# Altium footprint library QFP_Thin_Sq_40P_Side_N.PcbLib: 9 footprints
Each footprint in its own frame and in the unit in brackets; x right, y up, seen from the top. Pads: shape width x height; smd on the part's side, far side on the other; paste and mask are expansions set on the pad; w line width, h text height; cw(c..) or ccw(c..) is an arc to the next point about the centre after c.
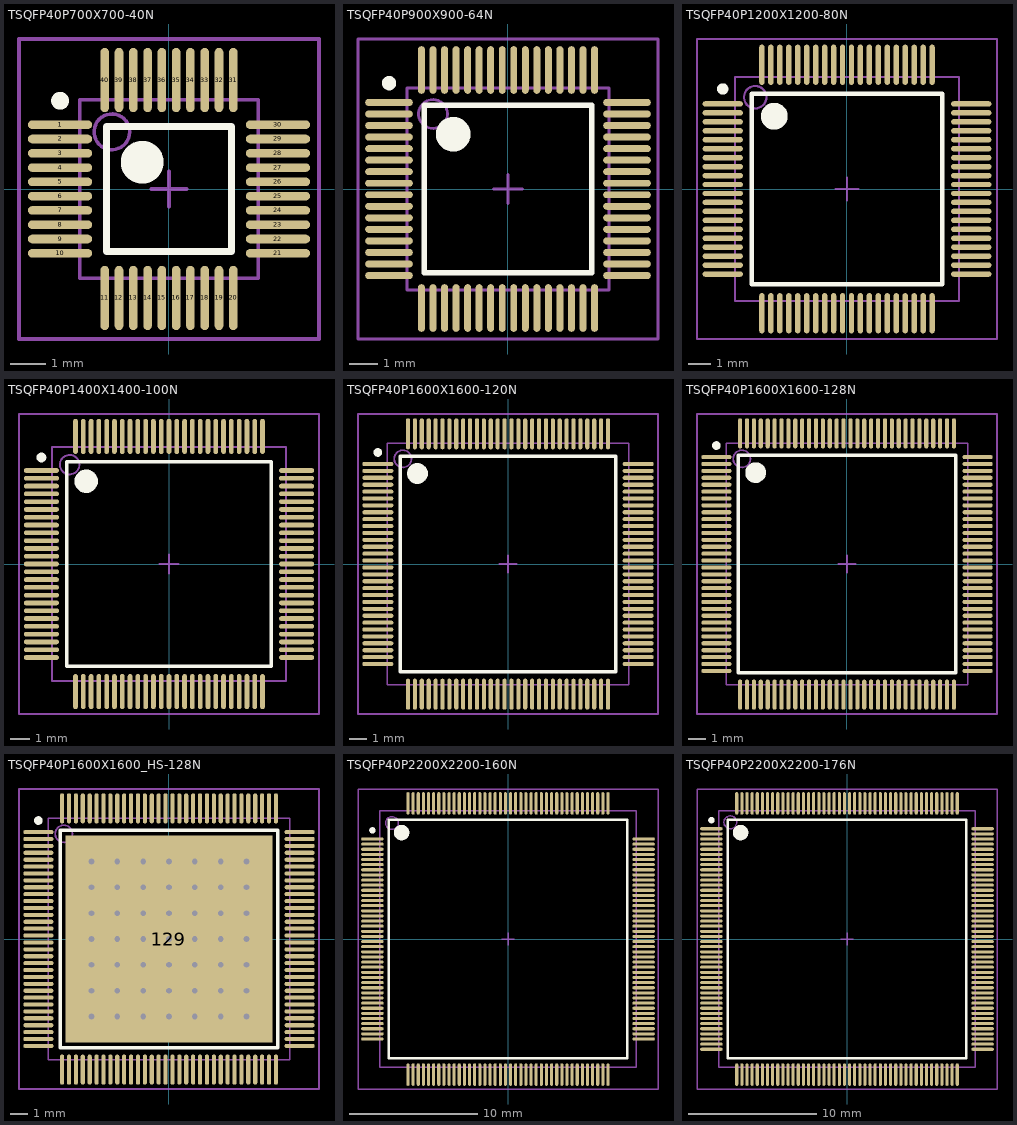
[diagram p0: the footprints below, top view; thin cyan lines are the x and y axes]

## TSQFP40P700X700-40N [mm] "Thin QFP, 40-Leads, Body 5x5mm, Pitch 0.4mm, IPC Medium Density"
height 1.2
pads (40):
  oval 1.8x0.24 smd: 1(-3.05,1.8) 2(-3.05,1.4) 3(-3.05,1) 4(-3.05,0.6) 5(-3.05,0.2) 6(-3.05,-0.2) 7(-3.05,-0.6) 8(-3.05,-1) 9(-3.05,-1.4) 10(-3.05,-1.8) 21(3.05,-1.8) 22(3.05,-1.4) 23(3.05,-1) 24(3.05,-0.6) 25(3.05,-0.2) 26(3.05,0.2) 27(3.05,0.6) 28(3.05,1) 29(3.05,1.4) 30(3.05,1.8)
  oval 0.24x1.8 smd: 11(-1.8,-3.05) 12(-1.4,-3.05) 13(-1,-3.05) 14(-0.6,-3.05) 15(-0.2,-3.05) 16(0.2,-3.05) 17(0.6,-3.05) 18(1,-3.05) 19(1.4,-3.05) 20(1.8,-3.05) 31(1.8,3.05) 32(1.4,3.05) 33(1,3.05) 34(0.6,3.05) 35(0.2,3.05) 36(-0.2,3.05) 37(-0.6,3.05) 38(-1,3.05) 39(-1.4,3.05) 40(-1.8,3.05)
Top Overlay:
  circle w0.25: c-3.05,2.47 r0.125
  circle w0.6: c-0.75,0.75 r0.3
  lines w0.2: -1.75,-1.75 -1.75,1.75 1.75,1.75 1.75,-1.75 -1.75,-1.75
Mechanical 13:
  circle w0.1: c-1.6,1.6 r0.5
  lines w0.1: -2.5,-2.5 -2.5,2.5 2.5,2.5 2.5,-2.5 -2.5,-2.5
Mechanical 15:
  lines w0.1: -0.5,0 0.5,0 ; 0,-0.5 0,0.5 ; -4.2,-4.2 -4.2,4.2 4.2,4.2 4.2,-4.2 -4.2,-4.2
3D body: height 1.2, standoff 0, extent -2.5,-2.5 2.5,2.5

## TSQFP40P900X900-64N [mm] "Thin QFP, 64-Leads, Body 7x7mm, Pitch 0.4mm, IPC Medium Density"
height 1.2
pads (64):
  oval 1.65x0.24 smd: 1(-4.125,3) 2(-4.125,2.6) 3(-4.125,2.2) 4(-4.125,1.8) 5(-4.125,1.4) 6(-4.125,1) 7(-4.125,0.6) 8(-4.125,0.2) 9(-4.125,-0.2) 10(-4.125,-0.6) 11(-4.125,-1) 12(-4.125,-1.4) 13(-4.125,-1.8) 14(-4.125,-2.2) 15(-4.125,-2.6) 16(-4.125,-3) 33(4.125,-3) 34(4.125,-2.6) 35(4.125,-2.2) 36(4.125,-1.8) 37(4.125,-1.4) 38(4.125,-1) 39(4.125,-0.6) 40(4.125,-0.2) 41(4.125,0.2) 42(4.125,0.6) 43(4.125,1) 44(4.125,1.4) 45(4.125,1.8) 46(4.125,2.2) 47(4.125,2.6) 48(4.125,3)
  oval 0.24x1.65 smd: 17(-3,-4.125) 18(-2.6,-4.125) 19(-2.2,-4.125) 20(-1.8,-4.125) 21(-1.4,-4.125) 22(-1,-4.125) 23(-0.6,-4.125) 24(-0.2,-4.125) 25(0.2,-4.125) 26(0.6,-4.125) 27(1,-4.125) 28(1.4,-4.125) 29(1.8,-4.125) 30(2.2,-4.125) 31(2.6,-4.125) 32(3,-4.125) 49(3,4.125) 50(2.6,4.125) 51(2.2,4.125) 52(1.8,4.125) 53(1.4,4.125) 54(1,4.125) 55(0.6,4.125) 56(0.2,4.125) 57(-0.2,4.125) 58(-0.6,4.125) 59(-1,4.125) 60(-1.4,4.125) 61(-1.8,4.125) 62(-2.2,4.125) 63(-2.6,4.125) 64(-3,4.125)
Top Overlay:
  circle w0.25: c-4.125,3.67 r0.125
  circle w0.6: c-1.9,1.9 r0.3
  lines w0.2: -2.9,-2.9 -2.9,2.9 2.9,2.9 2.9,-2.9 -2.9,-2.9
Mechanical 13:
  circle w0.1: c-2.6,2.6 r0.5
  lines w0.1: -3.5,-3.5 -3.5,3.5 3.5,3.5 3.5,-3.5 -3.5,-3.5
Mechanical 15:
  lines w0.1: -0.5,0 0.5,0 ; 0,-0.5 0,0.5 ; -5.2,-5.2 -5.2,5.2 5.2,5.2 5.2,-5.2 -5.2,-5.2
3D body: height 1.2, standoff 0, extent -3.5,-3.5 3.5,3.5

## TSQFP40P1200X1200-80N [mm] "Thin QFP, 80-Leads, Body 10x10mm, Pitch 0.4mm, IPC Medium Density"
height 1.2
pads (80):
  oval 1.8x0.24 smd: 1(-5.55,3.8) 2(-5.55,3.4) 3(-5.55,3) 4(-5.55,2.6) 5(-5.55,2.2) 6(-5.55,1.8) 7(-5.55,1.4) 8(-5.55,1) 9(-5.55,0.6) 10(-5.55,0.2) 11(-5.55,-0.2) 12(-5.55,-0.6) 13(-5.55,-1) 14(-5.55,-1.4) 15(-5.55,-1.8) 16(-5.55,-2.2) 17(-5.55,-2.6) 18(-5.55,-3) 19(-5.55,-3.4) 20(-5.55,-3.8) 41(5.55,-3.8) 42(5.55,-3.4) 43(5.55,-3) 44(5.55,-2.6) 45(5.55,-2.2) 46(5.55,-1.8) 47(5.55,-1.4) 48(5.55,-1) 49(5.55,-0.6) 50(5.55,-0.2) 51(5.55,0.2) 52(5.55,0.6) 53(5.55,1) 54(5.55,1.4) 55(5.55,1.8) 56(5.55,2.2) 57(5.55,2.6) 58(5.55,3) 59(5.55,3.4) 60(5.55,3.8)
  oval 0.24x1.8 smd: 21(-3.8,-5.55) 22(-3.4,-5.55) 23(-3,-5.55) 24(-2.6,-5.55) 25(-2.2,-5.55) 26(-1.8,-5.55) 27(-1.4,-5.55) 28(-1,-5.55) 29(-0.6,-5.55) 30(-0.2,-5.55) 31(0.2,-5.55) 32(0.6,-5.55) 33(1,-5.55) 34(1.4,-5.55) 35(1.8,-5.55) 36(2.2,-5.55) 37(2.6,-5.55) 38(3,-5.55) 39(3.4,-5.55) 40(3.8,-5.55) 61(3.8,5.55) 62(3.4,5.55) 63(3,5.55) 64(2.6,5.55) 65(2.2,5.55) 66(1.8,5.55) 67(1.4,5.55) 68(1,5.55) 69(0.6,5.55) 70(0.2,5.55) 71(-0.2,5.55) 72(-0.6,5.55) 73(-1,5.55) 74(-1.4,5.55) 75(-1.8,5.55) 76(-2.2,5.55) 77(-2.6,5.55) 78(-3,5.55) 79(-3.4,5.55) 80(-3.8,5.55)
Top Overlay:
  circle w0.25: c-5.55,4.47 r0.125
  circle w0.6: c-3.25,3.25 r0.3
  lines w0.2: -4.25,-4.25 -4.25,4.25 4.25,4.25 4.25,-4.25 -4.25,-4.25
Mechanical 13:
  circle w0.1: c-4.1,4.1 r0.5
  lines w0.1: -5,-5 -5,5 5,5 5,-5 -5,-5
Mechanical 15:
  lines w0.1: -0.5,0 0.5,0 ; 0,-0.5 0,0.5 ; -6.7,-6.7 -6.7,6.7 6.7,6.7 6.7,-6.7 -6.7,-6.7
3D body: height 1.2, standoff 0, extent -5,-5 5,5

## TSQFP40P1400X1400-100N [mm] "Thin QFP, 100-Leads, Body 12x12mm, Pitch 0.4mm, IPC Medium Density"
height 1.2
pads (100):
  oval 1.8x0.24 smd: 1(-6.55,4.8) 2(-6.55,4.4) 3(-6.55,4) 4(-6.55,3.6) 5(-6.55,3.2) 6(-6.55,2.8) 7(-6.55,2.4) 8(-6.55,2) 9(-6.55,1.6) 10(-6.55,1.2) 11(-6.55,0.8) 12(-6.55,0.4) 13(-6.55,0) 14(-6.55,-0.4) 15(-6.55,-0.8) 16(-6.55,-1.2) 17(-6.55,-1.6) 18(-6.55,-2) 19(-6.55,-2.4) 20(-6.55,-2.8) 21(-6.55,-3.2) 22(-6.55,-3.6) 23(-6.55,-4) 24(-6.55,-4.4) 25(-6.55,-4.8) 51(6.55,-4.8) 52(6.55,-4.4) 53(6.55,-4) 54(6.55,-3.6) 55(6.55,-3.2) 56(6.55,-2.8) 57(6.55,-2.4) 58(6.55,-2) 59(6.55,-1.6) 60(6.55,-1.2) 61(6.55,-0.8) 62(6.55,-0.4) 63(6.55,0) 64(6.55,0.4) 65(6.55,0.8) 66(6.55,1.2) 67(6.55,1.6) 68(6.55,2) 69(6.55,2.4) 70(6.55,2.8) 71(6.55,3.2) 72(6.55,3.6) 73(6.55,4) 74(6.55,4.4) 75(6.55,4.8)
  oval 0.24x1.8 smd: 26(-4.8,-6.55) 27(-4.4,-6.55) 28(-4,-6.55) 29(-3.6,-6.55) 30(-3.2,-6.55) 31(-2.8,-6.55) 32(-2.4,-6.55) 33(-2,-6.55) 34(-1.6,-6.55) 35(-1.2,-6.55) 36(-0.8,-6.55) 37(-0.4,-6.55) 38(0,-6.55) 39(0.4,-6.55) 40(0.8,-6.55) 41(1.2,-6.55) 42(1.6,-6.55) 43(2,-6.55) 44(2.4,-6.55) 45(2.8,-6.55) 46(3.2,-6.55) 47(3.6,-6.55) 48(4,-6.55) 49(4.4,-6.55) 50(4.8,-6.55) 76(4.8,6.55) 77(4.4,6.55) 78(4,6.55) 79(3.6,6.55) 80(3.2,6.55) 81(2.8,6.55) 82(2.4,6.55) 83(2,6.55) 84(1.6,6.55) 85(1.2,6.55) 86(0.8,6.55) 87(0.4,6.55) 88(0,6.55) 89(-0.4,6.55) 90(-0.8,6.55) 91(-1.2,6.55) 92(-1.6,6.55) 93(-2,6.55) 94(-2.4,6.55) 95(-2.8,6.55) 96(-3.2,6.55) 97(-3.6,6.55) 98(-4,6.55) 99(-4.4,6.55) 100(-4.8,6.55)
Top Overlay:
  circle w0.6: c-4.25,4.25 r0.3
  circle w0.25: c-6.55,5.47 r0.125
  lines w0.2: -5.25,-5.25 5.25,-5.25 5.25,5.25 -5.25,5.25 -5.25,-5.25
Mechanical 13:
  circle w0.1: c-5.1,5.1 r0.5
  lines w0.1: -6,-6 6,-6 6,6 -6,6 -6,-6
Mechanical 15:
  lines w0.1: -0.5,0 0.5,0 ; 0,-0.5 0,0.5 ; -7.7,-7.7 7.7,-7.7 7.7,7.7 -7.7,7.7 -7.7,-7.7
3D body: height 1.2, standoff 0, extent -6,-6 6,6

## TSQFP40P1600X1600-120N [mm] "Thin QFP, 120-Leads, Body 14x14mm, Pitch 0.4mm, IPC Medium Density"
height 1.2
pads (120):
  oval 1.8x0.24 smd: 1(-7.55,5.8) 2(-7.55,5.4) 3(-7.55,5) 4(-7.55,4.6) 5(-7.55,4.2) 6(-7.55,3.8) 7(-7.55,3.4) 8(-7.55,3) 9(-7.55,2.6) 10(-7.55,2.2) 11(-7.55,1.8) 12(-7.55,1.4) 13(-7.55,1) 14(-7.55,0.6) 15(-7.55,0.2) 16(-7.55,-0.2) 17(-7.55,-0.6) 18(-7.55,-1) 19(-7.55,-1.4) 20(-7.55,-1.8) 21(-7.55,-2.2) 22(-7.55,-2.6) 23(-7.55,-3) 24(-7.55,-3.4) 25(-7.55,-3.8) 26(-7.55,-4.2) 27(-7.55,-4.6) 28(-7.55,-5) 29(-7.55,-5.4) 30(-7.55,-5.8) 61(7.55,-5.8) 62(7.55,-5.4) 63(7.55,-5) 64(7.55,-4.6) 65(7.55,-4.2) 66(7.55,-3.8) 67(7.55,-3.4) 68(7.55,-3) 69(7.55,-2.6) 70(7.55,-2.2) 71(7.55,-1.8) 72(7.55,-1.4) 73(7.55,-1) 74(7.55,-0.6) 75(7.55,-0.2) 76(7.55,0.2) 77(7.55,0.6) 78(7.55,1) 79(7.55,1.4) 80(7.55,1.8) 81(7.55,2.2) 82(7.55,2.6) 83(7.55,3) 84(7.55,3.4) 85(7.55,3.8) 86(7.55,4.2) 87(7.55,4.6) 88(7.55,5) 89(7.55,5.4) 90(7.55,5.8)
  oval 0.24x1.8 smd: 31(-5.8,-7.55) 32(-5.4,-7.55) 33(-5,-7.55) 34(-4.6,-7.55) 35(-4.2,-7.55) 36(-3.8,-7.55) 37(-3.4,-7.55) 38(-3,-7.55) 39(-2.6,-7.55) 40(-2.2,-7.55) 41(-1.8,-7.55) 42(-1.4,-7.55) 43(-1,-7.55) 44(-0.6,-7.55) 45(-0.2,-7.55) 46(0.2,-7.55) 47(0.6,-7.55) 48(1,-7.55) 49(1.4,-7.55) 50(1.8,-7.55) 51(2.2,-7.55) 52(2.6,-7.55) 53(3,-7.55) 54(3.4,-7.55) 55(3.8,-7.55) 56(4.2,-7.55) 57(4.6,-7.55) 58(5,-7.55) 59(5.4,-7.55) 60(5.8,-7.55) 91(5.8,7.55) 92(5.4,7.55) 93(5,7.55) 94(4.6,7.55) 95(4.2,7.55) 96(3.8,7.55) 97(3.4,7.55) 98(3,7.55) 99(2.6,7.55) 100(2.2,7.55) 101(1.8,7.55) 102(1.4,7.55) 103(1,7.55) 104(0.6,7.55) 105(0.2,7.55) 106(-0.2,7.55) 107(-0.6,7.55) 108(-1,7.55) 109(-1.4,7.55) 110(-1.8,7.55) 111(-2.2,7.55) 112(-2.6,7.55) 113(-3,7.55) 114(-3.4,7.55) 115(-3.8,7.55) 116(-4.2,7.55) 117(-4.6,7.55) 118(-5,7.55) 119(-5.4,7.55) 120(-5.8,7.55)
Top Overlay:
  circle w0.25: c-7.55,6.47 r0.125
  circle w0.6: c-5.25,5.25 r0.3
  lines w0.2: -6.25,-6.25 -6.25,6.25 6.25,6.25 6.25,-6.25 -6.25,-6.25
Mechanical 13:
  circle w0.1: c-6.1,6.1 r0.5
  lines w0.1: -7,-7 -7,7 7,7 7,-7 -7,-7
Mechanical 15:
  lines w0.1: -0.5,0 0.5,0 ; 0,-0.5 0,0.5 ; -8.7,-8.7 -8.7,8.7 8.7,8.7 8.7,-8.7 -8.7,-8.7
3D body: height 1.2, standoff 0, extent -7,-7 7,7

## TSQFP40P1600X1600-128N [mm] "Thin QFP, 128-Leads, Body 14x14mm, Pitch 0.4mm, IPC Medium Density"
height 1.6
pads (128):
  oval 1.75x0.24 smd: 1(-7.575,6.2) 2(-7.575,5.8) 3(-7.575,5.4) 4(-7.575,5) 5(-7.575,4.6) 6(-7.575,4.2) 7(-7.575,3.8) 8(-7.575,3.4) 9(-7.575,3) 10(-7.575,2.6) 11(-7.575,2.2) 12(-7.575,1.8) 13(-7.575,1.4) 14(-7.575,1) 15(-7.575,0.6) 16(-7.575,0.2) 17(-7.575,-0.2) 18(-7.575,-0.6) 19(-7.575,-1) 20(-7.575,-1.4) 21(-7.575,-1.8) 22(-7.575,-2.2) 23(-7.575,-2.6) 24(-7.575,-3) 25(-7.575,-3.4) 26(-7.575,-3.8) 27(-7.575,-4.2) 28(-7.575,-4.6) 29(-7.575,-5) 30(-7.575,-5.4) 31(-7.575,-5.8) 32(-7.575,-6.2) 65(7.575,-6.2) 66(7.575,-5.8) 67(7.575,-5.4) 68(7.575,-5) 69(7.575,-4.6) 70(7.575,-4.2) 71(7.575,-3.8) 72(7.575,-3.4) 73(7.575,-3) 74(7.575,-2.6) 75(7.575,-2.2) 76(7.575,-1.8) 77(7.575,-1.4) 78(7.575,-1) 79(7.575,-0.6) 80(7.575,-0.2) 81(7.575,0.2) 82(7.575,0.6) 83(7.575,1) 84(7.575,1.4) 85(7.575,1.8) 86(7.575,2.2) 87(7.575,2.6) 88(7.575,3) 89(7.575,3.4) 90(7.575,3.8) 91(7.575,4.2) 92(7.575,4.6) 93(7.575,5) 94(7.575,5.4) 95(7.575,5.8) 96(7.575,6.2)
  oval 0.24x1.75 smd: 33(-6.2,-7.575) 34(-5.8,-7.575) 35(-5.4,-7.575) 36(-5,-7.575) 37(-4.6,-7.575) 38(-4.2,-7.575) 39(-3.8,-7.575) 40(-3.4,-7.575) 41(-3,-7.575) 42(-2.6,-7.575) 43(-2.2,-7.575) 44(-1.8,-7.575) 45(-1.4,-7.575) 46(-1,-7.575) 47(-0.6,-7.575) 48(-0.2,-7.575) 49(0.2,-7.575) 50(0.6,-7.575) 51(1,-7.575) 52(1.4,-7.575) 53(1.8,-7.575) 54(2.2,-7.575) 55(2.6,-7.575) 56(3,-7.575) 57(3.4,-7.575) 58(3.8,-7.575) 59(4.2,-7.575) 60(4.6,-7.575) 61(5,-7.575) 62(5.4,-7.575) 63(5.8,-7.575) 64(6.2,-7.575) 97(6.2,7.575) 98(5.8,7.575) 99(5.4,7.575) 100(5,7.575) 101(4.6,7.575) 102(4.2,7.575) 103(3.8,7.575) 104(3.4,7.575) 105(3,7.575) 106(2.6,7.575) 107(2.2,7.575) 108(1.8,7.575) 109(1.4,7.575) 110(1,7.575) 111(0.6,7.575) 112(0.2,7.575) 113(-0.2,7.575) 114(-0.6,7.575) 115(-1,7.575) 116(-1.4,7.575) 117(-1.8,7.575) 118(-2.2,7.575) 119(-2.6,7.575) 120(-3,7.575) 121(-3.4,7.575) 122(-3.8,7.575) 123(-4.2,7.575) 124(-4.6,7.575) 125(-5,7.575) 126(-5.4,7.575) 127(-5.8,7.575) 128(-6.2,7.575)
Top Overlay:
  circle w0.6: c-5.3,5.3 r0.3
  circle w0.25: c-7.575,6.87 r0.125
  lines w0.2: -6.3,-6.3 6.3,-6.3 6.3,6.3 -6.3,6.3 -6.3,-6.3
Mechanical 13:
  circle w0.1: c-6.1,6.1 r0.5
  lines w0.1: -7,-7 7,-7 7,7 -7,7 -7,-7
Mechanical 15:
  lines w0.1: -0.5,0 0.5,0 ; 0,-0.5 0,0.5 ; -8.7,-8.7 8.7,-8.7 8.7,8.7 -8.7,8.7 -8.7,-8.7
3D body: height 1.6, standoff 0, extent -7,-7 7,7

## TSQFP40P1600X1600_HS-128N [mm] "128-Pin Plastic Quad Flat Pack PowerPAD 0.4mm Pitch"
height 1.2
pads (129):
  oval 1.75x0.24 smd: 1(-7.575,6.2) 2(-7.575,5.8) 3(-7.575,5.4) 4(-7.575,5) 5(-7.575,4.6) 6(-7.575,4.2) 7(-7.575,3.8) 8(-7.575,3.4) 9(-7.575,3) 10(-7.575,2.6) 11(-7.575,2.2) 12(-7.575,1.8) 13(-7.575,1.4) 14(-7.575,1) 15(-7.575,0.6) 16(-7.575,0.2) 17(-7.575,-0.2) 18(-7.575,-0.6) 19(-7.575,-1) 20(-7.575,-1.4) 21(-7.575,-1.8) 22(-7.575,-2.2) 23(-7.575,-2.6) 24(-7.575,-3) 25(-7.575,-3.4) 26(-7.575,-3.8) 27(-7.575,-4.2) 28(-7.575,-4.6) 29(-7.575,-5) 30(-7.575,-5.4) 31(-7.575,-5.8) 32(-7.575,-6.2) 65(7.575,-6.2) 66(7.575,-5.8) 67(7.575,-5.4) 68(7.575,-5) 69(7.575,-4.6) 70(7.575,-4.2) 71(7.575,-3.8) 72(7.575,-3.4) 73(7.575,-3) 74(7.575,-2.6) 75(7.575,-2.2) 76(7.575,-1.8) 77(7.575,-1.4) 78(7.575,-1) 79(7.575,-0.6) 80(7.575,-0.2) 81(7.575,0.2) 82(7.575,0.6) 83(7.575,1) 84(7.575,1.4) 85(7.575,1.8) 86(7.575,2.2) 87(7.575,2.6) 88(7.575,3) 89(7.575,3.4) 90(7.575,3.8) 91(7.575,4.2) 92(7.575,4.6) 93(7.575,5) 94(7.575,5.4) 95(7.575,5.8) 96(7.575,6.2)
  oval 0.24x1.75 smd: 33(-6.2,-7.575) 34(-5.8,-7.575) 35(-5.4,-7.575) 36(-5,-7.575) 37(-4.6,-7.575) 38(-4.2,-7.575) 39(-3.8,-7.575) 40(-3.4,-7.575) 41(-3,-7.575) 42(-2.6,-7.575) 43(-2.2,-7.575) 44(-1.8,-7.575) 45(-1.4,-7.575) 46(-1,-7.575) 47(-0.6,-7.575) 48(-0.2,-7.575) 49(0.2,-7.575) 50(0.6,-7.575) 51(1,-7.575) 52(1.4,-7.575) 53(1.8,-7.575) 54(2.2,-7.575) 55(2.6,-7.575) 56(3,-7.575) 57(3.4,-7.575) 58(3.8,-7.575) 59(4.2,-7.575) 60(4.6,-7.575) 61(5,-7.575) 62(5.4,-7.575) 63(5.8,-7.575) 64(6.2,-7.575) 97(6.2,7.575) 98(5.8,7.575) 99(5.4,7.575) 100(5,7.575) 101(4.6,7.575) 102(4.2,7.575) 103(3.8,7.575) 104(3.4,7.575) 105(3,7.575) 106(2.6,7.575) 107(2.2,7.575) 108(1.8,7.575) 109(1.4,7.575) 110(1,7.575) 111(0.6,7.575) 112(0.2,7.575) 113(-0.2,7.575) 114(-0.6,7.575) 115(-1,7.575) 116(-1.4,7.575) 117(-1.8,7.575) 118(-2.2,7.575) 119(-2.6,7.575) 120(-3,7.575) 121(-3.4,7.575) 122(-3.8,7.575) 123(-4.2,7.575) 124(-4.6,7.575) 125(-5,7.575) 126(-5.4,7.575) 127(-5.8,7.575) 128(-6.2,7.575)
  rect 12x12 smd: 129(0,0)
via -4.5,-4.5 diameter 0.43 hole 0.33
via -3,-4.5 diameter 0.43 hole 0.33
via -1.5,-4.5 diameter 0.43 hole 0.33
via 0,-4.5 diameter 0.43 hole 0.33
via 1.5,-4.5 diameter 0.43 hole 0.33
via 3,-4.5 diameter 0.43 hole 0.33
via 4.5,-4.5 diameter 0.43 hole 0.33
via -4.5,4.5 diameter 0.43 hole 0.33
via -3,4.5 diameter 0.43 hole 0.33
via -1.5,4.5 diameter 0.43 hole 0.33
via 0,4.5 diameter 0.43 hole 0.33
via 1.5,4.5 diameter 0.43 hole 0.33
via 3,4.5 diameter 0.43 hole 0.33
via 4.5,4.5 diameter 0.43 hole 0.33
via -4.5,3 diameter 0.43 hole 0.33
via -3,3 diameter 0.43 hole 0.33
via -1.5,3 diameter 0.43 hole 0.33
via 0,3 diameter 0.43 hole 0.33
via 1.5,3 diameter 0.43 hole 0.33
via 3,3 diameter 0.43 hole 0.33
via 4.5,3 diameter 0.43 hole 0.33
via -4.5,1.5 diameter 0.43 hole 0.33
via -3,1.5 diameter 0.43 hole 0.33
via -1.5,1.5 diameter 0.43 hole 0.33
via 0,1.5 diameter 0.43 hole 0.33
via 1.5,1.5 diameter 0.43 hole 0.33
via 3,1.5 diameter 0.43 hole 0.33
via 4.5,1.5 diameter 0.43 hole 0.33
via -4.5,-3 diameter 0.43 hole 0.33
via -3,-3 diameter 0.43 hole 0.33
via -1.5,-3 diameter 0.43 hole 0.33
via 0,-3 diameter 0.43 hole 0.33
via 1.5,-3 diameter 0.43 hole 0.33
via 3,-3 diameter 0.43 hole 0.33
via 4.5,-3 diameter 0.43 hole 0.33
via 4.5,-1.5 diameter 0.43 hole 0.33
via 3,-1.5 diameter 0.43 hole 0.33
via 1.5,-1.5 diameter 0.43 hole 0.33
via 0,-1.5 diameter 0.43 hole 0.33
via -1.5,-1.5 diameter 0.43 hole 0.33
via -3,-1.5 diameter 0.43 hole 0.33
via -4.5,-1.5 diameter 0.43 hole 0.33
via -4.5,0 diameter 0.43 hole 0.33
via -3,0 diameter 0.43 hole 0.33
via -1.5,0 diameter 0.43 hole 0.33
via 4.5,0 diameter 0.43 hole 0.33
via 3,0 diameter 0.43 hole 0.33
via 1.5,0 diameter 0.43 hole 0.33
via 0,0 diameter 0.43 hole 0.33
Top Overlay:
  circle w0.25: c-7.575,6.87 r0.125
  circle w0.6: c-5.3,5.3 r0.3
  lines w0.2: -6.3,-6.3 -6.3,6.3 6.3,6.3 6.3,-6.3 -6.3,-6.3
Mechanical 13:
  circle w0.1: c-6.1,6.1 r0.5
  lines w0.1: -7,-7 -7,7 7,7 7,-7 -7,-7
Mechanical 15:
  lines w0.1: -0.5,0 0.5,0 ; 0,-0.5 0,0.5 ; -8.7,-8.7 -8.7,8.7 8.7,8.7 8.7,-8.7 -8.7,-8.7
3D body: height 1.2, standoff 0, extent -7,-7 7,7

## TSQFP40P2200X2200-160N [mm] "Thin QFP, 160-Leads, Body 20x20mm, Pitch 0.4mm, IPC Medium Density"
height 1.6
pads (160):
  oval 1.75x0.24 smd: 1(-10.575,7.8) 2(-10.575,7.4) 3(-10.575,7) 4(-10.575,6.6) 5(-10.575,6.2) 6(-10.575,5.8) 7(-10.575,5.4) 8(-10.575,5) 9(-10.575,4.6) 10(-10.575,4.2) 11(-10.575,3.8) 12(-10.575,3.4) 13(-10.575,3) 14(-10.575,2.6) 15(-10.575,2.2) 16(-10.575,1.8) 17(-10.575,1.4) 18(-10.575,1) 19(-10.575,0.6) 20(-10.575,0.2) 21(-10.575,-0.2) 22(-10.575,-0.6) 23(-10.575,-1) 24(-10.575,-1.4) 25(-10.575,-1.8) 26(-10.575,-2.2) 27(-10.575,-2.6) 28(-10.575,-3) 29(-10.575,-3.4) 30(-10.575,-3.8) 31(-10.575,-4.2) 32(-10.575,-4.6) 33(-10.575,-5) 34(-10.575,-5.4) 35(-10.575,-5.8) 36(-10.575,-6.2) 37(-10.575,-6.6) 38(-10.575,-7) 39(-10.575,-7.4) 40(-10.575,-7.8) 81(10.575,-7.8) 82(10.575,-7.4) 83(10.575,-7) 84(10.575,-6.6) 85(10.575,-6.2) 86(10.575,-5.8) 87(10.575,-5.4) 88(10.575,-5) 89(10.575,-4.6) 90(10.575,-4.2) 91(10.575,-3.8) 92(10.575,-3.4) 93(10.575,-3) 94(10.575,-2.6) 95(10.575,-2.2) 96(10.575,-1.8) 97(10.575,-1.4) 98(10.575,-1) 99(10.575,-0.6) 100(10.575,-0.2) 101(10.575,0.2) 102(10.575,0.6) 103(10.575,1) 104(10.575,1.4) 105(10.575,1.8) 106(10.575,2.2) 107(10.575,2.6) 108(10.575,3) 109(10.575,3.4) 110(10.575,3.8) 111(10.575,4.2) 112(10.575,4.6) 113(10.575,5) 114(10.575,5.4) 115(10.575,5.8) 116(10.575,6.2) 117(10.575,6.6) 118(10.575,7) 119(10.575,7.4) 120(10.575,7.8)
  oval 0.24x1.75 smd: 41(-7.8,-10.575) 42(-7.4,-10.575) 43(-7,-10.575) 44(-6.6,-10.575) 45(-6.2,-10.575) 46(-5.8,-10.575) 47(-5.4,-10.575) 48(-5,-10.575) 49(-4.6,-10.575) 50(-4.2,-10.575) 51(-3.8,-10.575) 52(-3.4,-10.575) 53(-3,-10.575) 54(-2.6,-10.575) 55(-2.2,-10.575) 56(-1.8,-10.575) 57(-1.4,-10.575) 58(-1,-10.575) 59(-0.6,-10.575) 60(-0.2,-10.575) 61(0.2,-10.575) 62(0.6,-10.575) 63(1,-10.575) 64(1.4,-10.575) 65(1.8,-10.575) 66(2.2,-10.575) 67(2.6,-10.575) 68(3,-10.575) 69(3.4,-10.575) 70(3.8,-10.575) 71(4.2,-10.575) 72(4.6,-10.575) 73(5,-10.575) 74(5.4,-10.575) 75(5.8,-10.575) 76(6.2,-10.575) 77(6.6,-10.575) 78(7,-10.575) 79(7.4,-10.575) 80(7.8,-10.575) 121(7.8,10.575) 122(7.4,10.575) 123(7,10.575) 124(6.6,10.575) 125(6.2,10.575) 126(5.8,10.575) 127(5.4,10.575) 128(5,10.575) 129(4.6,10.575) 130(4.2,10.575) 131(3.8,10.575) 132(3.4,10.575) 133(3,10.575) 134(2.6,10.575) 135(2.2,10.575) 136(1.8,10.575) 137(1.4,10.575) 138(1,10.575) 139(0.6,10.575) 140(0.2,10.575) 141(-0.2,10.575) 142(-0.6,10.575) 143(-1,10.575) 144(-1.4,10.575) 145(-1.8,10.575) 146(-2.2,10.575) 147(-2.6,10.575) 148(-3,10.575) 149(-3.4,10.575) 150(-3.8,10.575) 151(-4.2,10.575) 152(-4.6,10.575) 153(-5,10.575) 154(-5.4,10.575) 155(-5.8,10.575) 156(-6.2,10.575) 157(-6.6,10.575) 158(-7,10.575) 159(-7.4,10.575) 160(-7.8,10.575)
Top Overlay:
  circle w0.6: c-8.3,8.3 r0.3
  circle w0.25: c-10.575,8.47 r0.125
  lines w0.2: -9.3,-9.3 9.3,-9.3 9.3,9.3 -9.3,9.3 -9.3,-9.3
Mechanical 13:
  circle w0.1: c-9.05,9.05 r0.5
  lines w0.1: -10,-10 10,-10 10,10 -10,10 -10,-10
Mechanical 15:
  lines w0.1: -0.5,0 0.5,0 ; 0,-0.5 0,0.5 ; -11.7,-11.7 11.7,-11.7 11.7,11.7 -11.7,11.7 -11.7,-11.7
3D body: height 1.6, standoff 0.05, extent -10,-10 10,10

## TSQFP40P2200X2200-176N [mm] "Thin QFP, 176-Leads, Body 20x20mm, Pitch 0.4mm, IPC Medium Density"
height 1.2
pads (176):
  oval 1.75x0.24 smd: 1(-10.575,8.6) 2(-10.575,8.2) 3(-10.575,7.8) 4(-10.575,7.4) 5(-10.575,7) 6(-10.575,6.6) 7(-10.575,6.2) 8(-10.575,5.8) 9(-10.575,5.4) 10(-10.575,5) 11(-10.575,4.6) 12(-10.575,4.2) 13(-10.575,3.8) 14(-10.575,3.4) 15(-10.575,3) 16(-10.575,2.6) 17(-10.575,2.2) 18(-10.575,1.8) 19(-10.575,1.4) 20(-10.575,1) 21(-10.575,0.6) 22(-10.575,0.2) 23(-10.575,-0.2) 24(-10.575,-0.6) 25(-10.575,-1) 26(-10.575,-1.4) 27(-10.575,-1.8) 28(-10.575,-2.2) 29(-10.575,-2.6) 30(-10.575,-3) 31(-10.575,-3.4) 32(-10.575,-3.8) 33(-10.575,-4.2) 34(-10.575,-4.6) 35(-10.575,-5) 36(-10.575,-5.4) 37(-10.575,-5.8) 38(-10.575,-6.2) 39(-10.575,-6.6) 40(-10.575,-7) 41(-10.575,-7.4) 42(-10.575,-7.8) 43(-10.575,-8.2) 44(-10.575,-8.6) 89(10.575,-8.6) 90(10.575,-8.2) 91(10.575,-7.8) 92(10.575,-7.4) 93(10.575,-7) 94(10.575,-6.6) 95(10.575,-6.2) 96(10.575,-5.8) 97(10.575,-5.4) 98(10.575,-5) 99(10.575,-4.6) 100(10.575,-4.2) 101(10.575,-3.8) 102(10.575,-3.4) 103(10.575,-3) 104(10.575,-2.6) 105(10.575,-2.2) 106(10.575,-1.8) 107(10.575,-1.4) 108(10.575,-1) 109(10.575,-0.6) 110(10.575,-0.2) 111(10.575,0.2) 112(10.575,0.6) 113(10.575,1) 114(10.575,1.4) 115(10.575,1.8) 116(10.575,2.2) 117(10.575,2.6) 118(10.575,3) 119(10.575,3.4) 120(10.575,3.8) 121(10.575,4.2) 122(10.575,4.6) 123(10.575,5) 124(10.575,5.4) 125(10.575,5.8) 126(10.575,6.2) 127(10.575,6.6) 128(10.575,7) 129(10.575,7.4) 130(10.575,7.8) 131(10.575,8.2) 132(10.575,8.6)
  oval 0.24x1.75 smd: 45(-8.6,-10.575) 46(-8.2,-10.575) 47(-7.8,-10.575) 48(-7.4,-10.575) 49(-7,-10.575) 50(-6.6,-10.575) 51(-6.2,-10.575) 52(-5.8,-10.575) 53(-5.4,-10.575) 54(-5,-10.575) 55(-4.6,-10.575) 56(-4.2,-10.575) 57(-3.8,-10.575) 58(-3.4,-10.575) 59(-3,-10.575) 60(-2.6,-10.575) 61(-2.2,-10.575) 62(-1.8,-10.575) 63(-1.4,-10.575) 64(-1,-10.575) 65(-0.6,-10.575) 66(-0.2,-10.575) 67(0.2,-10.575) 68(0.6,-10.575) 69(1,-10.575) 70(1.4,-10.575) 71(1.8,-10.575) 72(2.2,-10.575) 73(2.6,-10.575) 74(3,-10.575) 75(3.4,-10.575) 76(3.8,-10.575) 77(4.2,-10.575) 78(4.6,-10.575) 79(5,-10.575) 80(5.4,-10.575) 81(5.8,-10.575) 82(6.2,-10.575) 83(6.6,-10.575) 84(7,-10.575) 85(7.4,-10.575) 86(7.8,-10.575) 87(8.2,-10.575) 88(8.6,-10.575) 133(8.6,10.575) 134(8.2,10.575) 135(7.8,10.575) 136(7.4,10.575) 137(7,10.575) 138(6.6,10.575) 139(6.2,10.575) 140(5.8,10.575) 141(5.4,10.575) 142(5,10.575) 143(4.6,10.575) 144(4.2,10.575) 145(3.8,10.575) 146(3.4,10.575) 147(3,10.575) 148(2.6,10.575) 149(2.2,10.575) 150(1.8,10.575) 151(1.4,10.575) 152(1,10.575) 153(0.6,10.575) 154(0.2,10.575) 155(-0.2,10.575) 156(-0.6,10.575) 157(-1,10.575) 158(-1.4,10.575) 159(-1.8,10.575) 160(-2.2,10.575) 161(-2.6,10.575) 162(-3,10.575) 163(-3.4,10.575) 164(-3.8,10.575) 165(-4.2,10.575) 166(-4.6,10.575) 167(-5,10.575) 168(-5.4,10.575) 169(-5.8,10.575) 170(-6.2,10.575) 171(-6.6,10.575) 172(-7,10.575) 173(-7.4,10.575) 174(-7.8,10.575) 175(-8.2,10.575) 176(-8.6,10.575)
Top Overlay:
  circle w0.25: c-10.575,9.27 r0.125
  circle w0.6: c-8.3,8.3 r0.3
  lines w0.2: -9.3,-9.3 -9.3,9.3 9.3,9.3 9.3,-9.3 -9.3,-9.3
Mechanical 13:
  circle w0.1: c-9.1,9.1 r0.5
  lines w0.1: -10,-10 -10,10 10,10 10,-10 -10,-10
Mechanical 15:
  lines w0.1: -0.5,0 0.5,0 ; 0,-0.5 0,0.5 ; -11.7,-11.7 -11.7,11.7 11.7,11.7 11.7,-11.7 -11.7,-11.7
3D body: height 1.2, standoff 0, extent -10,-10 10,10